# Altium footprint library 常用元件封装.PCBLIB: 164 footprints (part 3 of 11)
Each footprint in its own frame and in the unit in brackets; x right, y up, seen from the top. Pads: shape width x height; smd on the part's side, far side on the other; paste and mask are expansions set on the pad; w line width, h text height; cw(c..) or ccw(c..) is an arc to the next point about the centre after c.
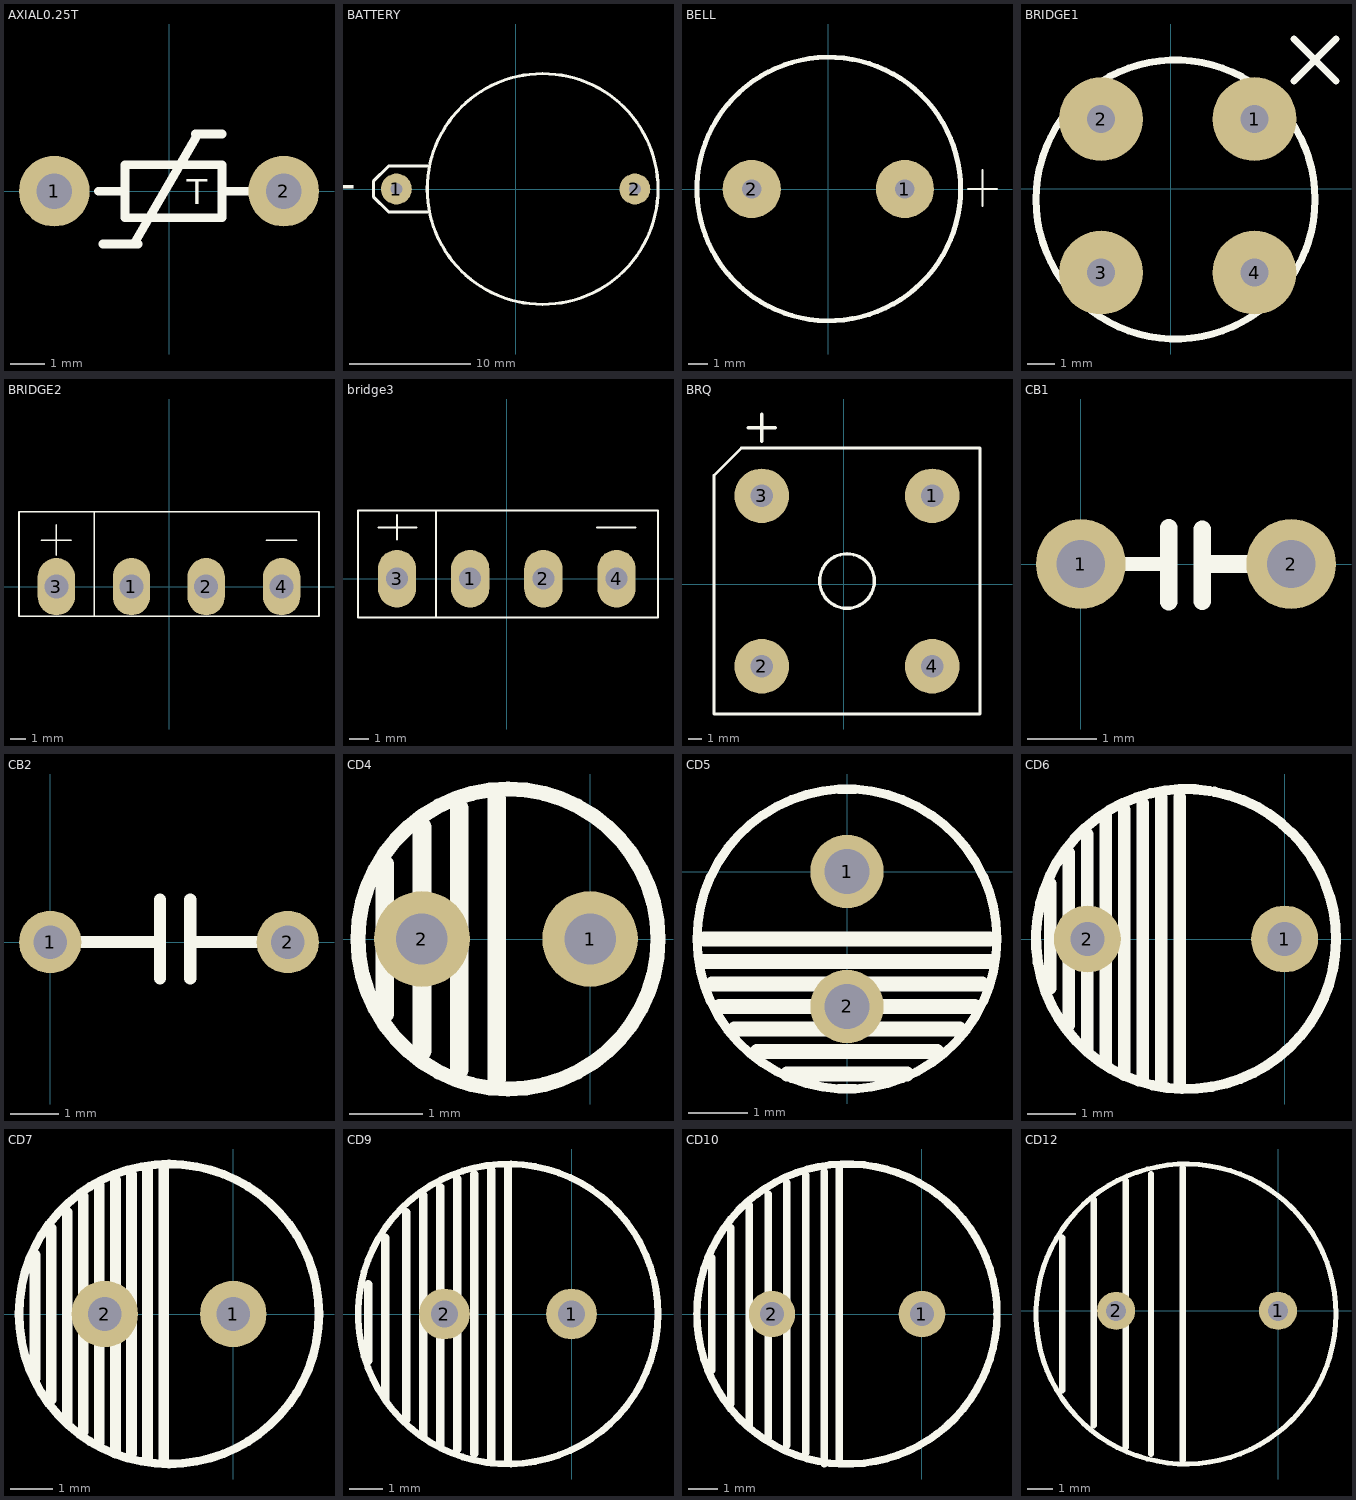
[diagram p2: the footprints below, top view; thin cyan lines are the x and y axes]

## AXIAL0.25T [mil]
pads (2):
  round 80 hole 40: 1(-130,0) 2(130,0)
TopOverlay:
  lines w10: -80,0 -50,0 ; -75,-60 -35,-60 ; -40,-60 30,60 ; 30,65 60,65 ; 60,0 90,0 ; -50,-30 60,-30 60,30 -50,30 -50,-30
  text "T" at 20,-15 h28

## BATTERY [mil]
pads (2):
  round 100 hole 40: 1(-387.5,0) 2(387.5,0)
TopOverlay:
  circle w10: c87.5,0 r375
  lines w10: -287.5,-75 -412.5,-75 -462.5,-25 -462.5,25 -412.5,75 -287.5,75
  text "+" at -512.5,50 h100

## BELL [mil]
pads (2):
  round 120 hole 40: 1(158,0) 2(-158,0)
TopOverlay:
  circle w10: c1.11,0 r271.89
  lines w4: 288,0 313,0 ; 302,0 348,0 ; 318,-35 318,39

## BRIDGE1 [mil]
pads (4):
  round 120 hole 40: 1(120,100) 2(-100,100) 3(-100,-120) 4(120,-120)
TopOverlay:
  circle w10: c6.8,-15.2 r200
  lines w10: 176.8,154.8 236.8,214.8 ; 176.8,214.8 236.8,154.8

## BRIDGE2 [mil]
pads (4):
  oval 98x150 hole 63: 1(-98.5,0) 2(97.5,0) 3(-295.5,0) 4(295.5,0)
TopOverlay:
  lines w4: -334.5,122 -256.5,122 ; -295.5,83 -295.5,162 ; -196.5,-78 -196.5,197 ; 255.5,122 334.5,122 ; -393.5,-78 -393.5,197 393.5,197 393.5,-78 -393.5,-78

## bridge3 [mm]
pads (4):
  oval 2x3 hole 1.143: 1(-1.905,0) 2(1.905,0) 3(-5.715,0) 4(5.715,0)
TopOverlay:
  lines w0.102: -6.68,2.667 -4.699,2.667 ; -5.715,2.032 -5.715,3.302 ; -3.683,-2.032 -3.683,3.556 ; 4.699,2.667 6.706,2.667 ; -7.747,-2.032 -7.747,3.556 7.874,3.556 7.874,-2.032 -7.747,-2.032

## BRQ [mil]
pads (4):
  round 160 hole 65: 1(260,260) 2(-240,-240) 3(-240,260) 4(260,-240)
TopOverlay:
  circle w10: c10.04,10.04 r80
  lines w8: -380,-380 400,-380 400,400 -300,400 -380,320 -380,-380
  lines w10: -280,460 -200,460 ; -240,420 -240,500

## CB1 [mm]
pads (2):
  round 1.3 hole 0.7: 1(0,0) 2(3.048,0)
TopOverlay:
  lines w0.203: 0,0 1.143,0
  lines w0.254: 1.271,0.522 1.272,-0.546 ; 1.757,-0.54 1.757,0.504 ; 1.778,0 3.048,0

## CB2 [mm]
pads (2):
  round 1.3 hole 0.7: 1(0,0) 2(4.953,0)
TopOverlay:
  lines w0.254: 0.635,0 1.27,0 2.286,0 ; 2.286,-0.762 2.286,0.889 ; 2.921,-0.762 2.921,0.889 ; 3.048,0 4.953,0

## CD4 [mm]
pads (2):
  round 1.3 hole 0.7: 1(0,0) 2(-2.286,0)
TopOverlay:
  circle w0.203: c-1.116,0 r2.04
  lines w0.254: -2.794,-1.016 -2.794,1.016 ; -2.286,-1.524 -2.286,1.524 ; -1.778,-1.778 -1.778,1.778 ; -1.27,-1.905 -1.27,1.905

## CD5 [mm]
pads (2):
  round 1.24 hole 0.762: 1(0,0) 2(0,-2.286)
TopOverlay:
  circle w0.154: c0,-1.143 r2.54
  lines w0.254: -2.413,-1.524 2.413,-1.524 ; -2.413,-1.143 2.413,-1.143 ; -2.286,-1.905 2.286,-1.905 ; -2.159,-2.286 2.159,-2.286 ; -1.905,-2.667 1.905,-2.667 ; -1.524,-3.048 1.524,-3.048 ; -1.016,-3.429 1.016,-3.429

## CD6 [mm]
pads (2):
  round 1.38 hole 0.7: 1(0,0) 2(-4.064,0)
TopOverlay:
  lines w0.21: -1.549,3.052 ccw(c-2.032,0) -1.442,3.033
  lines w0.254: -4.826,-1.016 -4.826,1.143 ; -4.445,-1.778 -4.445,1.778 ; -4.064,-2.286 -4.064,2.159 ; -3.683,-2.54 -3.683,2.54 ; -3.302,-2.794 -3.302,2.667 ; -2.921,-2.921 -2.921,2.794 ; -2.54,-2.921 -2.54,2.921 ; -2.159,-3.048 -2.159,2.921

## CD7 [mil]
pads (2):
  round 62 hole 31.5: 1(0,0) 2(-120,0)
TopOverlay:
  circle w8: c-60,0 r140
  lines w10: -185,-60 -185,55 ; -170,-80 -170,80 ; -155,-100 -155,95 ; -140,-110 -140,110 ; -125,-120 -125,120 ; -110,-130 -110,125 ; -95,-130 -95,130 ; -80,-135 -80,135 ; -65,-135 -65,135

## CD9 [mil]
pads (2):
  round 60 hole 31.5: 1(0,0) 2(-150,0)
TopOverlay:
  circle w7.87: c-75,0 r177.16
  lines w10: -240,-55 -240,35 ; -220,-100 -220,90 ; -195,-125 -195,120 ; -175,-145 -175,140 ; -155,-155 -155,150 ; -135,-160 -135,160 ; -115,-165 -115,165 ; -95,-175 -95,170 ; -75,-175 -75,175

## CD10 [mil]
pads (2):
  round 62 hole 31.5: 1(0,0) 2(-200,0)
TopOverlay:
  circle w10: c-100,0 r200
  lines w10: -280,-75 -280,75 ; -255,-120 -255,115 ; -230,-150 -230,145 ; -205,-165 -205,160 ; -180,-175 -180,175 ; -155,-185 -155,185 ; -130,-200 -130,190 ; -110,-200 -110,195

## CD12 [mil]
pads (2):
  round 60 hole 31.5: 1(0,0) 2(-255,0)
TopOverlay:
  circle w7.87: c-145,-5 r236.22
  lines w10: -340,-125 -340,115 ; -290,-180 -290,175 ; -240,-215 -240,205 ; -200,-225 -200,215 ; -150,-235 -150,225